# Altium footprint library FUSE_10.86X4.78.PcbLib: 1 footprints
Each footprint in its own frame and in the unit in brackets; x right, y up, seen from the top. Pads: shape width x height; smd on the part's side, far side on the other; paste and mask are expansions set on the pad; w line width, h text height; cw(c..) or ccw(c..) is an arc to the next point about the centre after c.
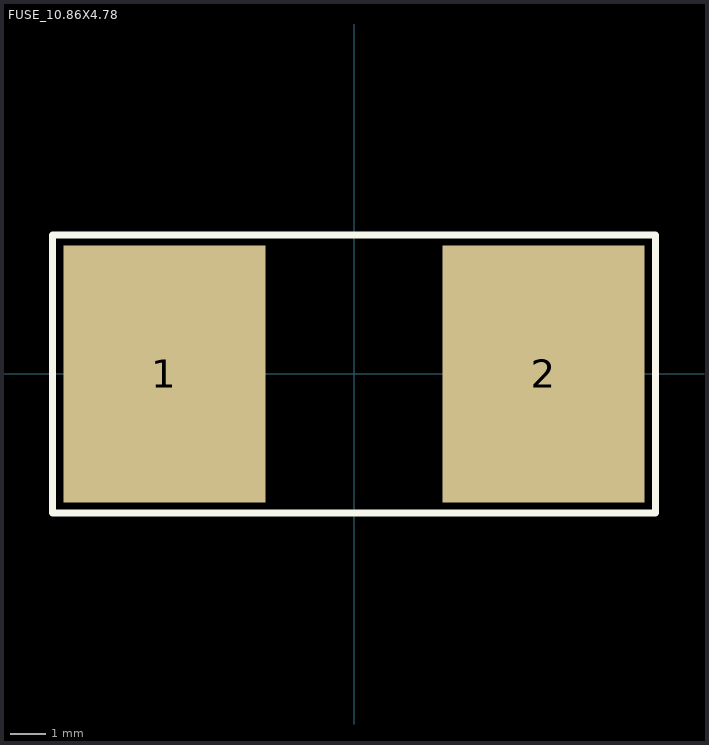
[diagram p0: the footprint, top view; thin cyan lines are the x and y axes]

## FUSE_10.86X4.78 [mm]
pads (2):
  rect 5.7x7.25 smd: 1(-5.35,0) 2(5.35,0)
Top Overlay:
  lines w0.2: -8.5,-3.925 -8.5,3.925 8.5,3.925 8.5,-3.925 -8.5,-3.925
Top Courtyard:
  lines w0.1: -8.5,-3.925 8.5,-3.925 8.5,3.925 -8.5,3.925 -8.5,-3.925
3D body "INDC10948X49M.step": height 4.88, standoff 0, extent -5.555,-2.44 5.555,2.44